# EAGLE library part CLP-103-02-G-D (library Conn_CAC)
SOCKET, 1.27MM, VERTICAL THT, 6WAY
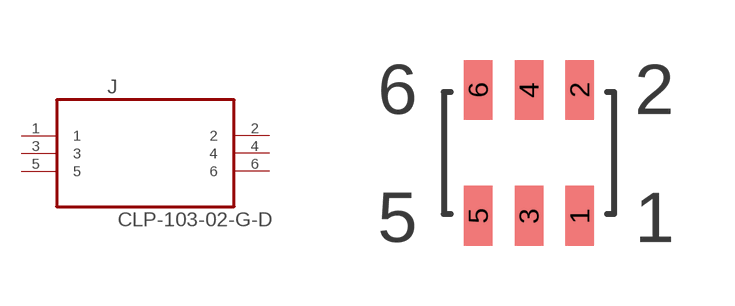
[diagram p0: symbol with the pads of SAMTEC_CLP-103-02-G-D; footprint SAMTEC_CLP-103-02-G-D]

Designator prefix J

## CLP-103-02-G-D (MPN: CLP-103-02-G-D; OC_FARNELL: 1929038; OC_NEWARK: 11P3802; PACKAGE: 1.27MM, VERTICAL THT, 6WAY; SUPPLIER: SAMTEC)  [SAMTEC_CLP-103-02-G-D]
1  1  pas
2  2  pas
3  3  pas
4  4  pas
5  5  pas
6  6  pas

## Footprint SAMTEC_CLP-103-02-G-D (pad centres in mm)
smd 0.711 x 1.499: 1 1.27,-1.575; 2 1.27,1.575; 3 0,-1.575; 4 0,1.575; 5 -1.27,-1.575; 6 -1.27,1.575